# Altium schematic symbol library diodes.SchLib: 2 symbols
Pins are listed as number, name and electrical type; pins without a type are passive.

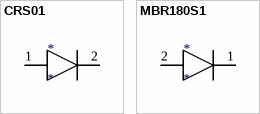
[diagram p0: symbols CRS01 to MBR180S1]

## CRS01
designator *
footprint CRS01 (SODFL127P600-8N)
pins: 1, 2

## MBR180S1
designator *
MBR180S1
footprint MBR180S1 (SODFL, 2-Leads, Body 1.55x3.70mm, IPC Medium Density)
pins: 1, 2